# EAGLE library part TSL2561 (library ERIC)
TSL2561 LIGHT-TO-DIGITAL CONVERTER
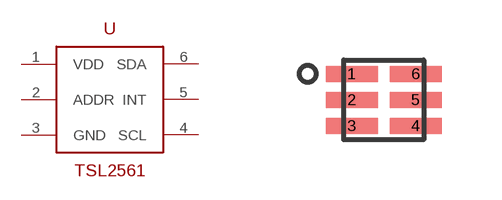
[diagram p24: symbol with the pads of DFN_FN; footprint DFN_FN]

Designator prefix -

## TSL2561FN  [DFN_FN]
1  VDD  pwr
2  ADDR
3  GND  pwr
4  SCL  in
5  INT  out
6  SDA

## Footprint DFN_FN (pad centres in mm)
DFN footprint for TSL2561 LIGHT-TO-DIGITAL CONVERTER
smd 1.3 x 0.4: 1 -0.8,0.65; 2 -0.8,0; 3 -0.8,-0.65; 4 0.8,-0.65; 5 0.8,0; 6 0.8,0.65